# Altium schematic symbol library 293D476X0025D2TE3.SchLib: 1 symbol
Pins are listed as number, name and electrical type; pins without a type are passive.

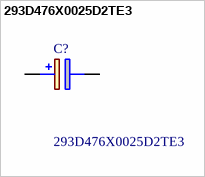
[diagram p0: symbol 293D476X0025D2TE3]

## 293D476X0025D2TE3
designator C?
Solid Tantalum Surface Mount Chip Capacitors TANTAMOUNT(TM), Molded Case, Standard Industrial Grade; Manufacturer_Name: Vishay; Geometry.Height: 3.1mm; Manufacturer_Part_Number: 293D476X0025D2TE3; Mouser Part Number: 74-293D476X0025D2TE3; Mouser Price/Stock: https://www.mouser.co.uk/ProductDetail/Vishay-Sprague/293D476X0025D2TE3?qs=OfOG5bLMyOcFiaPR4DkhSA%3D%3D; Arrow Part Number: 293D476X0025D2TE3; Arrow Price/Stock: https://www.arrow.com/en/products/293d476x0025d2te3/vishay; Datasheet Link: http://www.vishay.com/docs/40002/293d.pdf
footprint CAPPM7343X310N
pins: 1 +, 2 -